# EAGLE library part LSM330DL (library ELE3000)
3D accelerometer sensor and 3D gyroscope sensor
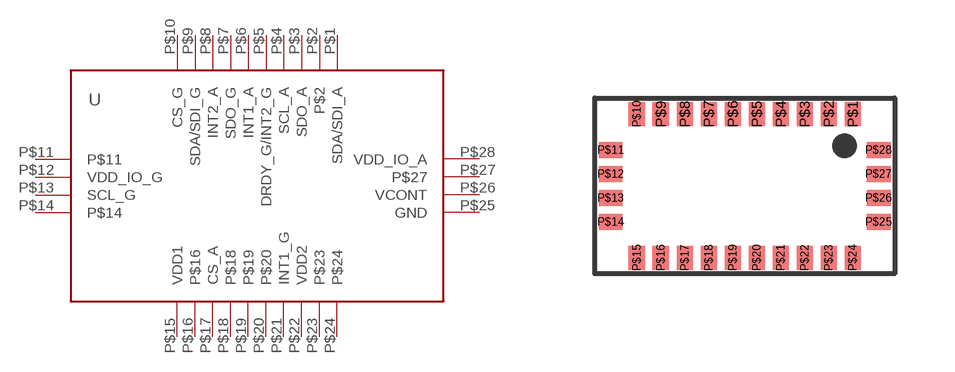
[diagram p0: symbol with the pads of LGA-28; footprint LGA-28]

Designator prefix -

## LSM330DL  [LGA-28]
P$1  SDA/SDI_A
P$2  P$2  nc
P$3  SDO_A
P$4  SCL_A  in
P$5  DRDY_G/INT2_G  out
P$6  INT1_A  out
P$7  SDO_G
P$8  INT2_A  out
P$9  SDA/SDI_G
P$10  CS_G  in
P$11  P$11  nc
P$12  VDD_IO_G  pwr
P$13  SCL_G  in
P$14  P$14  nc
P$15  VDD1  pwr
P$16  P$16  nc
P$17  CS_A  in
P$18  P$18  nc
P$19  P$19  nc
P$20  P$20  nc
P$21  INT1_G  out
P$22  VDD2  pwr
P$23  P$23  nc
P$24  P$24  nc
P$25  GND  pwr
P$26  VCONT
P$27  P$27  nc
P$28  VDD_IO_A  pwr

## Footprint LGA-28 (pad centres in mm)
LLGA 7.5 x 4.4 x 1.1 28L
smd 0.4 x 0.6: P$1 2.7,1.8; P$2 2.1,1.8; P$3 1.5,1.8; P$4 0.9,1.8; P$5 0.3,1.8; P$6 -0.3,1.8; P$7 -0.9,1.8; P$8 -1.5,1.8; P$9 -2.1,1.8; P$10 -2.7,1.8; P$15 -2.7,-1.8; P$16 -2.1,-1.8; P$17 -1.5,-1.8; P$18 -0.9,-1.8; P$19 -0.3,-1.8; P$20 0.3,-1.8; P$21 0.9,-1.8; P$22 1.5,-1.8; P$23 2.1,-1.8; P$24 2.7,-1.8
smd 0.6 x 0.4: P$11 -3.35,0.9; P$12 -3.35,0.3; P$13 -3.35,-0.3; P$14 -3.35,-0.9; P$25 3.35,-0.9; P$26 3.35,-0.3; P$27 3.35,0.3; P$28 3.35,0.9